# Altium footprint library SJ-3523-SMT-TR.PcbLib: 1 footprints
Each footprint in its own frame and in the unit in brackets; x right, y up, seen from the top. Pads: shape width x height; smd on the part's side, far side on the other; paste and mask are expansions set on the pad; w line width, h text height; cw(c..) or ccw(c..) is an arc to the next point about the centre after c.
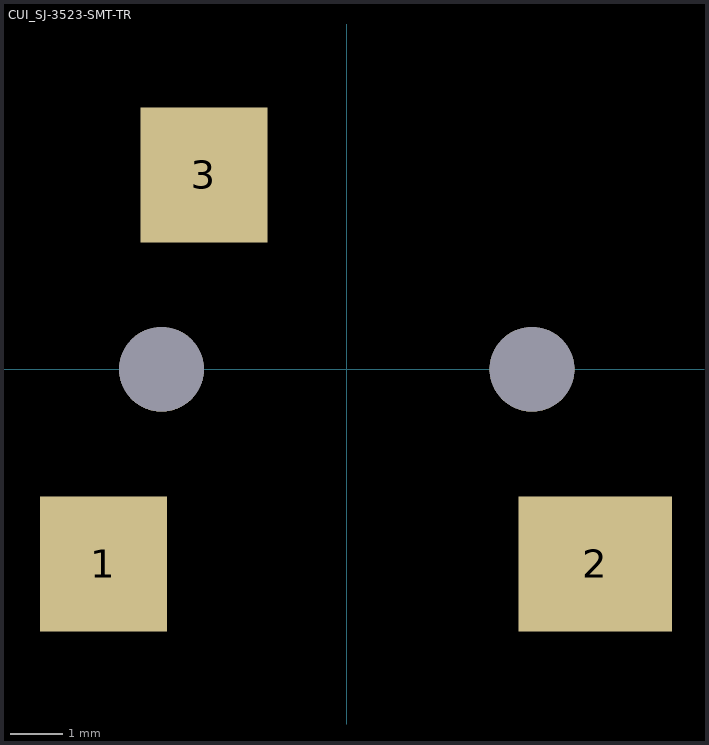
[diagram p0: the footprint, top view; thin cyan lines are the x and y axes]

## CUI_SJ-3523-SMT-TR [mm]
pads (5):
  rect 2.4x2.55 smd: 1(-4.6,-3.675) 3(-2.7,3.675)
  rect 2.9x2.55 smd: 2(4.7,-3.675)
  round 1.6 hole 1.6 unplated: ""(-3.5,0) ""(3.5,0)
3D body "step_temp.STEP": height 5.02, standoff -0.78, extent -9.75,-4.5 7.25,4.5